# EAGLE library part MC14513BCPG (library ON Semiconductor_By_element14_Batch_1)
BCD-To-Seven Segment
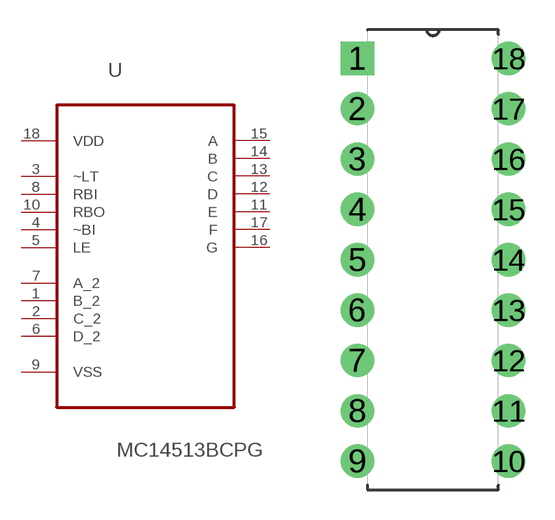
[diagram p280: symbol with the pads of DIP254P762X457-18; footprint DIP254P762X457-18]

Designator prefix U

## MC14513BCPG (MPN: MC14513BCPG; OC_FARNELL: 1353501; OC_NEWARK: 71J5493; P1I: o; PACKAGE: PDIP-18; SUPPLIER: On Semiconductors)  [DIP254P762X457-18]
1  B_2  in
2  C_2  in
3  ~LT  in
4  ~BI  in
5  LE  in
6  D_2  in
7  A_2  in
8  RBI  in
9  VSS  pwr
10  RBO  pas
11  E  out
12  D  out
13  C  out
14  B  out
15  A  out
16  G  out
17  F  out
18  VDD  pwr

## Footprint DIP254P762X457-18 (pad centres in mm)
drill 1.118 square: 1 -7.62,20.32
drill 1.118: 2 -7.62,17.78; 3 -7.62,15.24; 4 -7.62,12.7; 5 -7.62,10.16; 6 -7.62,7.62; 7 -7.62,5.08; 8 -7.62,2.54; 9 -7.62,0; 10 0,0; 11 0,2.54; 12 0,5.08; 13 0,7.62; 14 0,10.16; 15 0,12.7; 16 0,15.24; 17 0,17.78; 18 0,20.32